# Altium schematic symbol library A4988_Connector.SchLib: 1 symbol
Pins are listed as number, name and electrical type; pins without a type are passive.

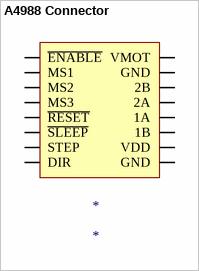
[diagram p0: symbol A4988 Connector]

## A4988 Connector
designator *
footprint A4988_Connector_PCB
pins: 1 ~{ENABLE}, 2 VMOT (power), 3 MS1 (oc), 4 GND, 4 GND, 5 MS2, 6 2B, 7 MS3, 8 2A, 9 ~{RESET}, 10 1A, 11 STEP, 11 ~{SLEEP}, 12 1B, 14 VDD (oc), 15 DIR